# Altium schematic symbol library Crystall_Oscillator_2.Schlib: 1 symbol
Pins are listed as number, name and electrical type; pins without a type are passive.

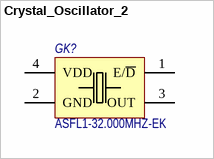
[diagram p0: symbol Crystal_Oscillator_2]

## Crystal_Oscillator_2
designator GK?, comment ASFL1-32.000MHZ-EK
Crystall oscillator, CMOS, 3.3V, SMD3025; Назначение: XO SMD 3.3V 32.000MHZ 3.2X5MM; Потребление, Вт: 0,165; ComponentLink1Description: DataSheet; ComponentLink1URL: https://abracon.com/Oscillators/ASFL1.pdf; Наименование: ASFL1-32.000MHZ-EK
footprint SMD_7050_Crystal_Oscillator
footprint SMD_3025_Crustal_Oscilator
pins: 1 E/~{D} "Enable/~Disable", 2 GND, 3 OUT "Frequency signal out", 4 VDD